# EAGLE library part SIMM_30-PIN (library _mtvl.memory)
30-pin SIMM module
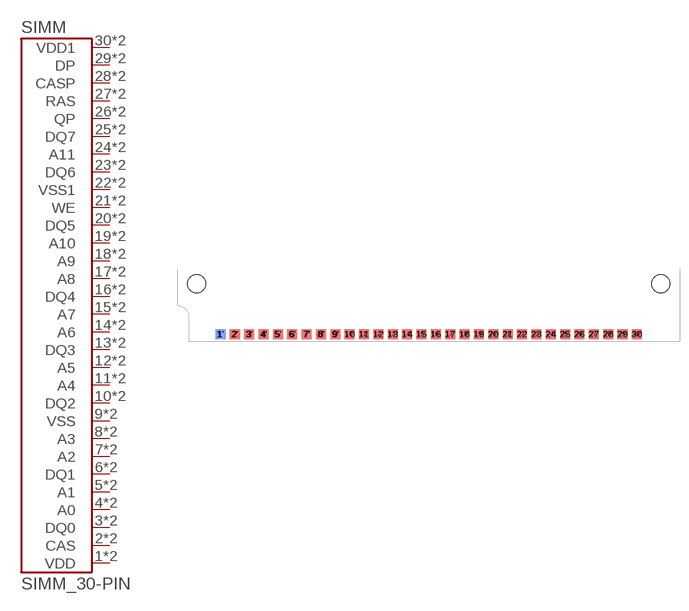
[diagram p0: symbol with the pads of SIMM_30-PIN-1; footprint SIMM_30-PIN-1]

Designator prefix SIMM

## SIMM_30-PIN-1  [SIMM_30-PIN-1]
1  VDD  pwr
1'  VDD  pwr
2  CAS
2'  CAS
3  DQ0
3'  DQ0
4  A0
4'  A0
5  A1
5'  A1
6  DQ1
6'  DQ1
7  A2
7'  A2
8  A3
8'  A3
9  VSS  pwr
9'  VSS  pwr
10  DQ2
10'  DQ2
11  A4
11'  A4
12  A5
12'  A5
13  DQ3
13'  DQ3
14  A6
14'  A6
15  A7
15'  A7
16  DQ4
16'  DQ4
17  A8
17'  A8
18  A9
18'  A9
19  A10
19'  A10
20  DQ5
20'  DQ5
21  WE
21'  WE
22  VSS1  pwr
22'  VSS1  pwr
23  DQ6
23'  DQ6
24  A11
24'  A11
25  DQ7
25'  DQ7
26  QP
26'  QP
27  RAS
27'  RAS
28  CASP
28'  CASP
29  DP
29'  DP
30  VDD1  pwr
30'  VDD1  pwr

## Footprint SIMM_30-PIN-1 (pad centres in mm)
30-pin SIMM module
smd 1.778 x 1.778: 1 -36.83,1.27; 2 -34.29,1.27; 3 -31.75,1.27; 4 -29.21,1.27; 5 -26.67,1.27; 6 -24.13,1.27; 7 -21.59,1.27; 8 -19.05,1.27; 9 -16.51,1.27; 10 -13.97,1.27; 11 -11.43,1.27; 12 -8.89,1.27; 13 -6.35,1.27; 14 -3.81,1.27; 15 -1.27,1.27; 16 1.27,1.27; 17 3.81,1.27; 18 6.35,1.27; 19 8.89,1.27; 20 11.43,1.27; 21 13.97,1.27; 22 16.51,1.27; 23 19.05,1.27; 24 21.59,1.27; 25 24.13,1.27; 26 26.67,1.27; 27 29.21,1.27; 28 31.75,1.27; 29 34.29,1.27; 30 36.83,1.27
smd 1.778 x 1.778 bottom: 1' -36.83,1.27; 2' -34.29,1.27; 3' -31.75,1.27; 4' -29.21,1.27; 5' -26.67,1.27; 6' -24.13,1.27; 7' -21.59,1.27; 8' -19.05,1.27; 9' -16.51,1.27; 10' -13.97,1.27; 11' -11.43,1.27; 12' -8.89,1.27; 13' -6.35,1.27; 14' -3.81,1.27; 15' -1.27,1.27; 16' 1.27,1.27; 17' 3.81,1.27; 18' 6.35,1.27; 19' 8.89,1.27; 20' 11.43,1.27; 21' 13.97,1.27; 22' 16.51,1.27; 23' 19.05,1.27; 24' 21.59,1.27; 25' 24.13,1.27; 26' 26.67,1.27; 27' 29.21,1.27; 28' 31.75,1.27; 29' 34.29,1.27; 30' 36.83,1.27
hole 3.175 at -41.072,10.16
hole 3.175 at 41.072,10.16